# EAGLE library part STM32MP153 (library Bits_library_eagle 9x)
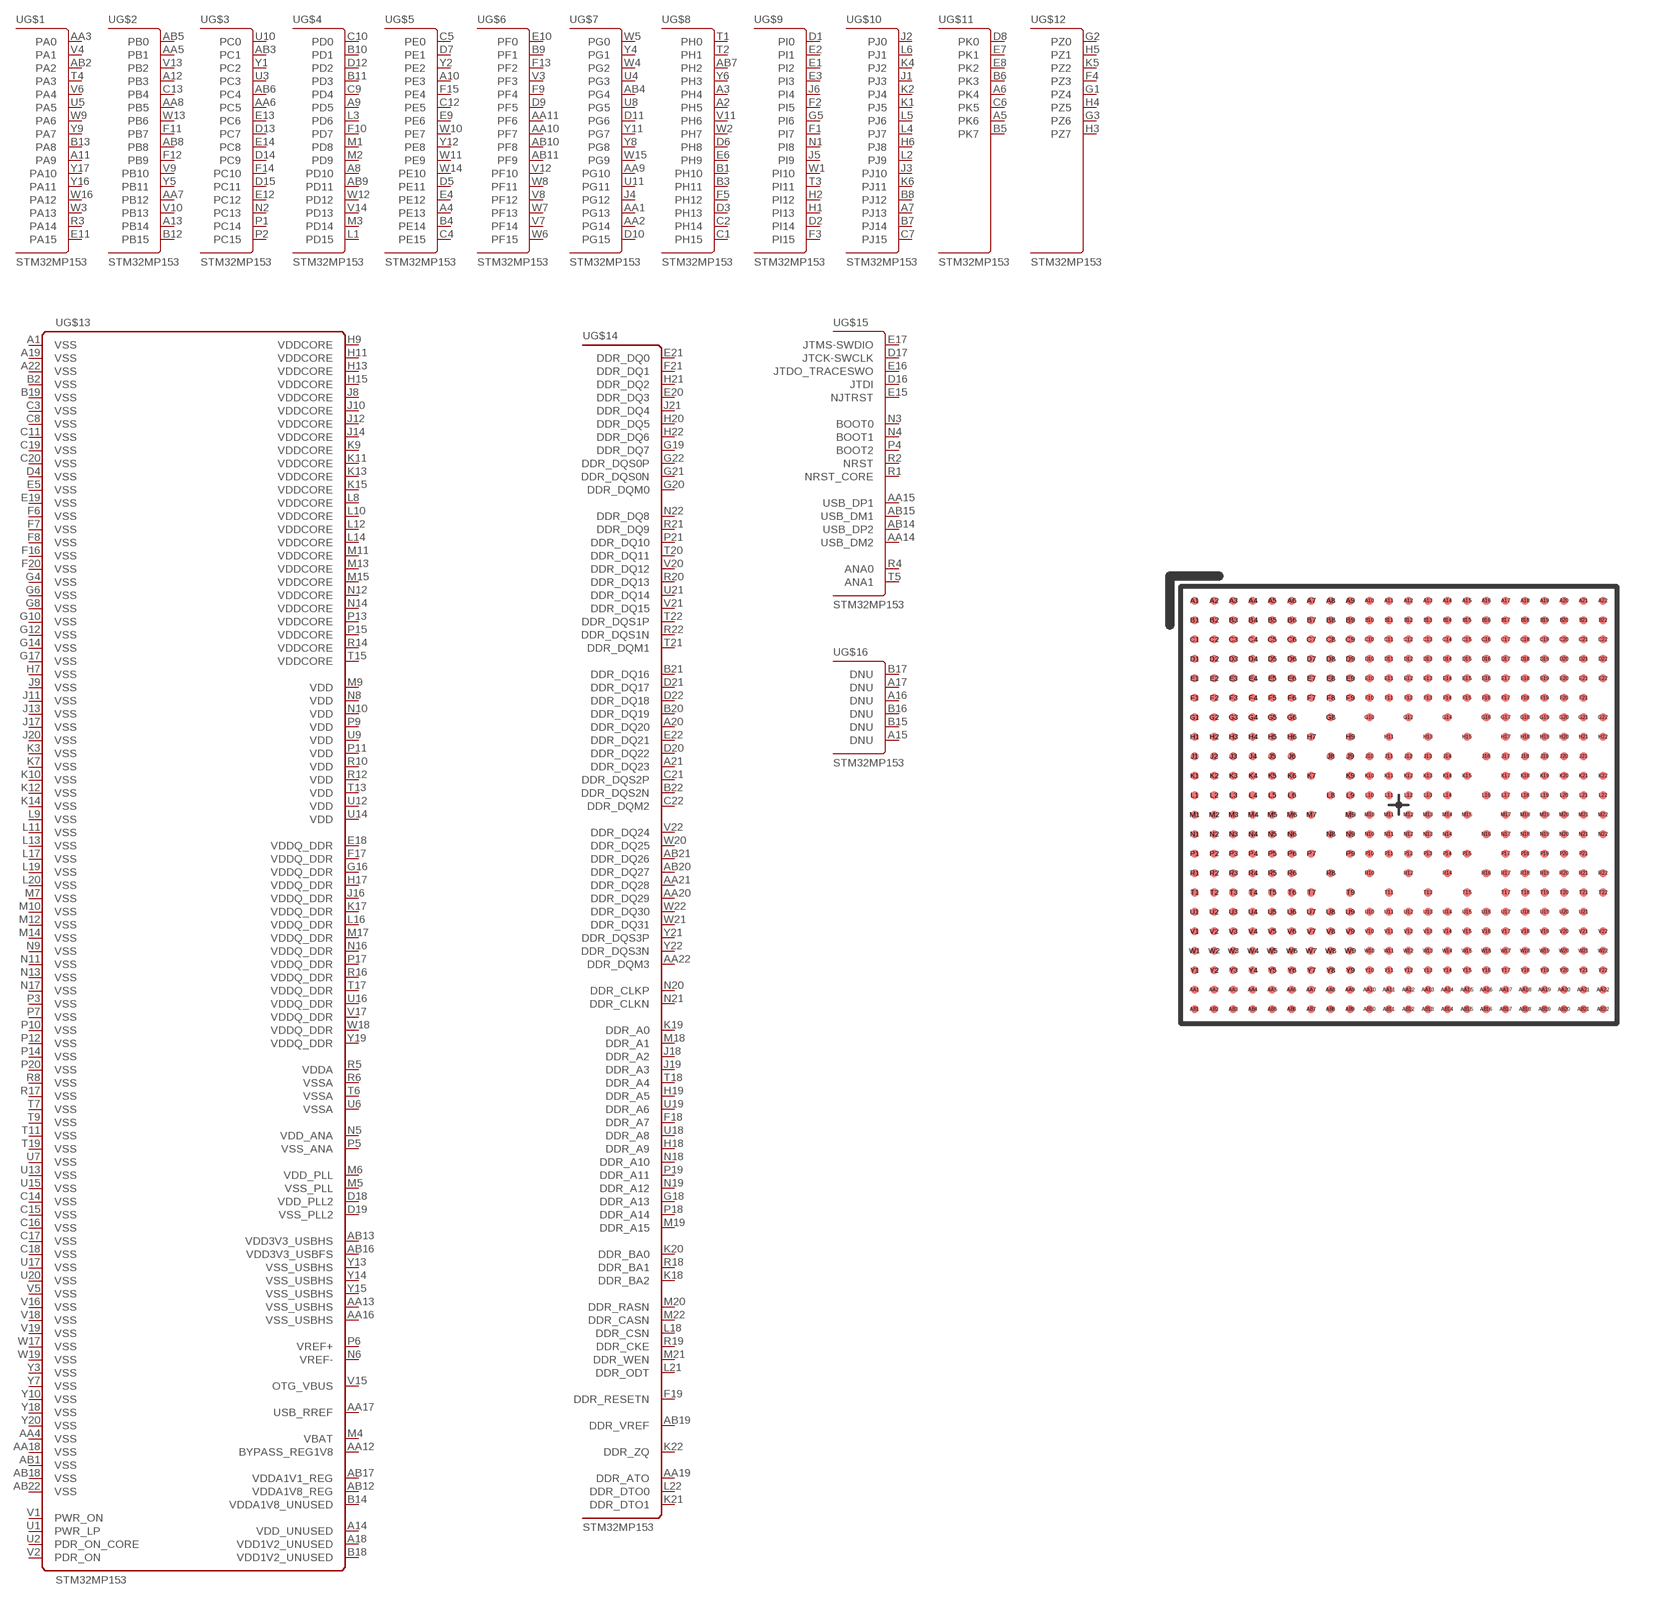
[diagram p41: symbol with the pads of LFBGA448; footprint LFBGA448]

Designator prefix -; gates G$1=STM32-PORTA G$2=STM32-PORTB G$3=STM32-PORTC G$4=STM32-PORTD G$5=STM32-PORTE G$6=STM32-PORTF G$7=STM32-PORTG G$8=STM32-PORTH G$9=STM32-PORTI G$10=STM32-PORTJ G$11=STM32-PORTK G$12=STM32-PORTZ G$13=STM32MP-PWR G$14=STM32MP-DDR G$15=STM32MP-SYS G$16=STM32MP-MISC

## STM32MP153  [LFBGA448]
A1  G$13:VSS  pwr
A2  G$8:PH5
A3  G$8:PH4
A4  G$5:PE13
A5  G$11:PK6
A6  G$11:PK4
A7  G$10:PJ13
A8  G$4:PD10
A9  G$4:PD5
A10  G$5:PE3
A11  G$1:PA9
A12  G$2:PB3
A13  G$2:PB14
A14  G$13:VDD_UNUSED  pwr
A15  G$16:DNU
A16  G$16:DNU
A17  G$16:DNU
A18  G$13:VDD1V2_UNUSED  pwr
A19  G$13:VSS  pwr
A20  G$14:DDR_DQ20
A21  G$14:DDR_DQ23
A22  G$13:VSS  pwr
AA1  G$7:PG13
AA2  G$7:PG14
AA3  G$1:PA0
AA4  G$13:VSS  pwr
AA5  G$2:PB1
AA6  G$3:PC5
AA7  G$2:PB12
AA8  G$2:PB5
AA9  G$7:PG10
AA10  G$6:PF7
AA11  G$6:PF6
AA12  G$13:BYPASS_REG1V8  pwr
AA13  G$13:VSS_USBHS  pwr
AA14  G$15:USB_DM2
AA15  G$15:USB_DP1
AA16  G$13:VSS_USBHS  pwr
AA17  G$13:USB_RREF  pwr
AA18  G$13:VSS  pwr
AA19  G$14:DDR_ATO
AA20  G$14:DDR_DQ29
AA21  G$14:DDR_DQ28
AA22  G$14:DDR_DQM3
AB1  G$13:VSS  pwr
AB2  G$1:PA2
AB3  G$3:PC1
AB4  G$7:PG4
AB5  G$2:PB0
AB6  G$3:PC4
AB7  G$8:PH2
AB8  G$2:PB8
AB9  G$4:PD11
AB10  G$6:PF8
AB11  G$6:PF9
AB12  G$13:VDDA1V8_REG  pwr
AB13  G$13:VDD3V3_USBHS  pwr
AB14  G$15:USB_DP2
AB15  G$15:USB_DM1
AB16  G$13:VDD3V3_USBFS  pwr
AB17  G$13:VDDA1V1_REG  pwr
AB18  G$13:VSS  pwr
AB19  G$14:DDR_VREF
AB20  G$14:DDR_DQ27
AB21  G$14:DDR_DQ26
AB22  G$13:VSS  pwr
B1  G$8:PH10
B2  G$13:VSS  pwr
B3  G$8:PH11
B4  G$5:PE14
B5  G$11:PK7
B6  G$11:PK3
B7  G$10:PJ14
B8  G$10:PJ12
B9  G$6:PF1
B10  G$4:PD1
B11  G$4:PD3
B12  G$2:PB15
B13  G$1:PA8
B14  G$13:VDDA1V8_UNUSED  pwr
B15  G$16:DNU
B16  G$16:DNU
B17  G$16:DNU
B18  G$13:VDD1V2_UNUSED  pwr
B19  G$13:VSS  pwr
B20  G$14:DDR_DQ19
B21  G$14:DDR_DQ16
B22  G$14:DDR_DQS2N
C1  G$8:PH15
C2  G$8:PH14
C3  G$13:VSS  pwr
C4  G$5:PE15
C5  G$5:PE0
C6  G$11:PK5
C7  G$10:PJ15
C8  G$13:VSS  pwr
C9  G$4:PD4
C10  G$4:PD0
C11  G$13:VSS  pwr
C12  G$5:PE5
C13  G$2:PB4
C14  G$13:VSS  pwr
C15  G$13:VSS  pwr
C16  G$13:VSS  pwr
C17  G$13:VSS  pwr
C18  G$13:VSS  pwr
C19  G$13:VSS  pwr
C20  G$13:VSS  pwr
C21  G$14:DDR_DQS2P
C22  G$14:DDR_DQM2
D1  G$9:PI0
D2  G$9:PI14
D3  G$8:PH13
D4  G$13:VSS  pwr
D5  G$5:PE11
D6  G$8:PH8
D7  G$5:PE1
D8  G$11:PK0
D9  G$6:PF5
D10  G$7:PG15
D11  G$7:PG6
D12  G$4:PD2
D13  G$3:PC7
D14  G$3:PC9
D15  G$3:PC11
D16  G$15:JTDI
D17  G$15:JTCK-SWCLK
D18  G$13:VDD_PLL2  pwr
D19  G$13:VSS_PLL2  pwr
D20  G$14:DDR_DQ22
D21  G$14:DDR_DQ17
D22  G$14:DDR_DQ18
E1  G$9:PI2
E2  G$9:PI1
E3  G$9:PI3
E4  G$5:PE12
E5  G$13:VSS  pwr
E6  G$8:PH9
E7  G$11:PK1
E8  G$11:PK2
E9  G$5:PE6
E10  G$6:PF0
E11  G$1:PA15
E12  G$3:PC12
E13  G$3:PC6
E14  G$3:PC8
E15  G$15:NJTRST
E16  G$15:JTDO_TRACESWO
E17  G$15:JTMS-SWDIO
E18  G$13:VDDQ_DDR  pwr
E19  G$13:VSS  pwr
E20  G$14:DDR_DQ3
E21  G$14:DDR_DQ0
E22  G$14:DDR_DQ21
F1  G$9:PI7
F2  G$9:PI5
F3  G$9:PI15
F4  G$12:PZ3
F5  G$8:PH12
F6  G$13:VSS  pwr
F7  G$13:VSS  pwr
F8  G$13:VSS  pwr
F9  G$6:PF4
F10  G$4:PD7
F11  G$2:PB7
F12  G$2:PB9
F13  G$6:PF2
F14  G$3:PC10
F15  G$5:PE4
F16  G$13:VSS  pwr
F17  G$13:VDDQ_DDR  pwr
F18  G$14:DDR_A7
F19  G$14:DDR_RESETN
F20  G$13:VSS  pwr
F21  G$14:DDR_DQ1
G1  G$12:PZ4
G2  G$12:PZ0
G3  G$12:PZ6
G4  G$13:VSS  pwr
G5  G$9:PI6
G6  G$13:VSS  pwr
G8  G$13:VSS  pwr
G10  G$13:VSS  pwr
G12  G$13:VSS  pwr
G14  G$13:VSS  pwr
G16  G$13:VDDQ_DDR  pwr
G17  G$13:VSS  pwr
G18  G$14:DDR_A13
G19  G$14:DDR_DQ7
G20  G$14:DDR_DQM0
G21  G$14:DDR_DQS0N
G22  G$14:DDR_DQS0P
H1  G$9:PI13
H2  G$9:PI12
H3  G$12:PZ7
H4  G$12:PZ5
H5  G$12:PZ1
H6  G$10:PJ8
H7  G$13:VSS  pwr
H9  G$13:VDDCORE  pwr
H11  G$13:VDDCORE  pwr
H13  G$13:VDDCORE  pwr
H15  G$13:VDDCORE  pwr
H17  G$13:VDDQ_DDR  pwr
H18  G$14:DDR_A9
H19  G$14:DDR_A5
H20  G$14:DDR_DQ5
H21  G$14:DDR_DQ2
H22  G$14:DDR_DQ6
J1  G$10:PJ3
J2  G$10:PJ0
J3  G$10:PJ10
J4  G$7:PG12
J5  G$9:PI9
J6  G$9:PI4
J8  G$13:VDDCORE  pwr
J9  G$13:VSS  pwr
J10  G$13:VDDCORE  pwr
J11  G$13:VSS  pwr
J12  G$13:VDDCORE  pwr
J13  G$13:VSS  pwr
J14  G$13:VDDCORE  pwr
J16  G$13:VDDQ_DDR  pwr
J17  G$13:VSS  pwr
J18  G$14:DDR_A2
J19  G$14:DDR_A3
J20  G$13:VSS  pwr
J21  G$14:DDR_DQ4
K1  G$10:PJ5
K2  G$10:PJ4
K3  G$13:VSS  pwr
K4  G$10:PJ2
K5  G$12:PZ2
K6  G$10:PJ11
K7  G$13:VSS  pwr
K9  G$13:VDDCORE  pwr
K10  G$13:VSS  pwr
K11  G$13:VDDCORE  pwr
K12  G$13:VSS  pwr
K13  G$13:VDDCORE  pwr
K14  G$13:VSS  pwr
K15  G$13:VDDCORE  pwr
K17  G$13:VDDQ_DDR  pwr
K18  G$14:DDR_BA2
K19  G$14:DDR_A0
K20  G$14:DDR_BA0
K21  G$14:DDR_DTO1
K22  G$14:DDR_ZQ
L1  G$4:PD15
L2  G$10:PJ9
L3  G$4:PD6
L4  G$10:PJ7
L5  G$10:PJ6
L6  G$10:PJ1
L8  G$13:VDDCORE  pwr
L9  G$13:VSS  pwr
L10  G$13:VDDCORE  pwr
L11  G$13:VSS  pwr
L12  G$13:VDDCORE  pwr
L13  G$13:VSS  pwr
L14  G$13:VDDCORE  pwr
L16  G$13:VDDQ_DDR  pwr
L17  G$13:VSS  pwr
L18  G$14:DDR_CSN
L19  G$13:VSS  pwr
L20  G$13:VSS  pwr
L21  G$14:DDR_ODT
L22  G$14:DDR_DTO0
M1  G$4:PD8
M2  G$4:PD9
M3  G$4:PD14
M4  G$13:VBAT  pwr
M5  G$13:VSS_PLL  pwr
M6  G$13:VDD_PLL  pwr
M7  G$13:VSS  pwr
M9  G$13:VDD  pwr
M10  G$13:VSS  pwr
M11  G$13:VDDCORE  pwr
M12  G$13:VSS  pwr
M13  G$13:VDDCORE  pwr
M14  G$13:VSS  pwr
M15  G$13:VDDCORE  pwr
M17  G$13:VDDQ_DDR  pwr
M18  G$14:DDR_A1
M19  G$14:DDR_A15
M20  G$14:DDR_RASN
M21  G$14:DDR_WEN
M22  G$14:DDR_CASN
N1  G$9:PI8
N2  G$3:PC13
N3  G$15:BOOT0
N4  G$15:BOOT1
N5  G$13:VDD_ANA  pwr
N6  G$13:VREF-  pwr
N8  G$13:VDD  pwr
N9  G$13:VSS  pwr
N10  G$13:VDD  pwr
N11  G$13:VSS  pwr
N12  G$13:VDDCORE  pwr
N13  G$13:VSS  pwr
N14  G$13:VDDCORE  pwr
N16  G$13:VDDQ_DDR  pwr
N17  G$13:VSS  pwr
N18  G$14:DDR_A10
N19  G$14:DDR_A12
N20  G$14:DDR_CLKP
N21  G$14:DDR_CLKN
N22  G$14:DDR_DQ8
P1  G$3:PC14
P2  G$3:PC15
P3  G$13:VSS  pwr
P4  G$15:BOOT2
P5  G$13:VSS_ANA  pwr
P6  G$13:VREF+  pwr
P7  G$13:VSS  pwr
P9  G$13:VDD  pwr
P10  G$13:VSS  pwr
P11  G$13:VDD  pwr
P12  G$13:VSS  pwr
P13  G$13:VDDCORE  pwr
P14  G$13:VSS  pwr
P15  G$13:VDDCORE  pwr
P17  G$13:VDDQ_DDR  pwr
P18  G$14:DDR_A14
P19  G$14:DDR_A11
P20  G$13:VSS  pwr
P21  G$14:DDR_DQ10
R1  G$15:NRST_CORE
R2  G$15:NRST
R3  G$1:PA14
R4  G$15:ANA0
R5  G$13:VDDA  pwr
R6  G$13:VSSA  pwr
R8  G$13:VSS  pwr
R10  G$13:VDD  pwr
R12  G$13:VDD  pwr
R14  G$13:VDDCORE  pwr
R16  G$13:VDDQ_DDR  pwr
R17  G$13:VSS  pwr
R18  G$14:DDR_BA1
R19  G$14:DDR_CKE
R20  G$14:DDR_DQ13
R21  G$14:DDR_DQ9
R22  G$14:DDR_DQS1N
T1  G$8:PH0
T2  G$8:PH1
T3  G$9:PI11
T4  G$1:PA3
T5  G$15:ANA1
T6  G$13:VSSA  pwr
T7  G$13:VSS  pwr
T9  G$13:VSS  pwr
T11  G$13:VSS  pwr
T13  G$13:VDD  pwr
T15  G$13:VDDCORE  pwr
T17  G$13:VDDQ_DDR  pwr
T18  G$14:DDR_A4
T19  G$13:VSS  pwr
T20  G$14:DDR_DQ11
T21  G$14:DDR_DQM1
T22  G$14:DDR_DQS1P
U1  G$13:PWR_LP  pwr
U2  G$13:PDR_ON_CORE  pwr
U3  G$3:PC3
U4  G$7:PG3
U5  G$1:PA5
U6  G$13:VSSA  pwr
U7  G$13:VSS  pwr
U8  G$7:PG5
U9  G$13:VDD  pwr
U10  G$3:PC0
U11  G$7:PG11
U12  G$13:VDD  pwr
U13  G$13:VSS  pwr
U14  G$13:VDD  pwr
U15  G$13:VSS  pwr
U16  G$13:VDDQ_DDR  pwr
U17  G$13:VSS  pwr
U18  G$14:DDR_A8
U19  G$14:DDR_A6
U20  G$13:VSS  pwr
U21  G$14:DDR_DQ14
V1  G$13:PWR_ON  pwr
V2  G$13:PDR_ON  pwr
V3  G$6:PF3
V4  G$1:PA1
V5  G$13:VSS  pwr
V6  G$1:PA4
V7  G$6:PF14
V8  G$6:PF12
V9  G$2:PB10
V10  G$2:PB13
V11  G$8:PH6
V12  G$6:PF10
V13  G$2:PB2
V14  G$4:PD13
V15  G$13:OTG_VBUS  pwr
V16  G$13:VSS  pwr
V17  G$13:VDDQ_DDR  pwr
V18  G$13:VSS  pwr
V19  G$13:VSS  pwr
V20  G$14:DDR_DQ12
V21  G$14:DDR_DQ15
V22  G$14:DDR_DQ24
W1  G$9:PI10
W2  G$8:PH7
W3  G$1:PA13
W4  G$7:PG2
W5  G$7:PG0
W6  G$6:PF15
W7  G$6:PF13
W8  G$6:PF11
W9  G$1:PA6
W10  G$5:PE7
W11  G$5:PE9
W12  G$4:PD12
W13  G$2:PB6
W14  G$5:PE10
W15  G$7:PG9
W16  G$1:PA12
W17  G$13:VSS  pwr
W18  G$13:VDDQ_DDR  pwr
W19  G$13:VSS  pwr
W20  G$14:DDR_DQ25
W21  G$14:DDR_DQ31
W22  G$14:DDR_DQ30
Y1  G$3:PC2
Y2  G$5:PE2
Y3  G$13:VSS  pwr
Y4  G$7:PG1
Y5  G$2:PB11
Y6  G$8:PH3
Y7  G$13:VSS  pwr
Y8  G$7:PG8
Y9  G$1:PA7
Y10  G$13:VSS  pwr
Y11  G$7:PG7
Y12  G$5:PE8
Y13  G$13:VSS_USBHS  pwr
Y14  G$13:VSS_USBHS  pwr
Y15  G$13:VSS_USBHS  pwr
Y16  G$1:PA11
Y17  G$1:PA10
Y18  G$13:VSS  pwr
Y19  G$13:VDDQ_DDR  pwr
Y20  G$13:VSS  pwr
Y21  G$14:DDR_DQS3P
Y22  G$14:DDR_DQS3N

## Footprint LFBGA448 (pad centres in mm)
smd 0.32 x 0.32: A1 -8.4,8.4; A2 -7.6,8.4; A3 -6.8,8.4; A4 -6,8.4; A5 -5.2,8.4; A6 -4.4,8.4; A7 -3.6,8.4; A8 -2.8,8.4; A9 -2,8.4; A10 -1.2,8.4; A11 -0.4,8.4; A12 0.4,8.4; A13 1.2,8.4; A14 2,8.4; A15 2.8,8.4; A16 3.6,8.4; A17 4.4,8.4; A18 5.2,8.4; A19 6,8.4; A20 6.8,8.4; A21 7.6,8.4; A22 8.4,8.4; AA1 -8.4,-7.6; AA2 -7.6,-7.6; AA3 -6.8,-7.6; AA4 -6,-7.6; AA5 -5.2,-7.6; AA6 -4.4,-7.6; AA7 -3.6,-7.6; AA8 -2.8,-7.6; AA9 -2,-7.6; AA10 -1.2,-7.6; AA11 -0.4,-7.6; AA12 0.4,-7.6; AA13 1.2,-7.6; AA14 2,-7.6; AA15 2.8,-7.6; AA16 3.6,-7.6; AA17 4.4,-7.6; AA18 5.2,-7.6; AA19 6,-7.6; AA20 6.8,-7.6; AA21 7.6,-7.6; AA22 8.4,-7.6; AB1 -8.4,-8.4; AB2 -7.6,-8.4; AB3 -6.8,-8.4; AB4 -6,-8.4; AB5 -5.2,-8.4; AB6 -4.4,-8.4; AB7 -3.6,-8.4; AB8 -2.8,-8.4; AB9 -2,-8.4; AB10 -1.2,-8.4; AB11 -0.4,-8.4; AB12 0.4,-8.4; AB13 1.2,-8.4; AB14 2,-8.4; AB15 2.8,-8.4; AB16 3.6,-8.4; AB17 4.4,-8.4; AB18 5.2,-8.4; AB19 6,-8.4; AB20 6.8,-8.4; AB21 7.6,-8.4; AB22 8.4,-8.4; B1 -8.4,7.6; B2 -7.6,7.6; B3 -6.8,7.6; B4 -6,7.6; B5 -5.2,7.6; B6 -4.4,7.6; B7 -3.6,7.6; B8 -2.8,7.6; B9 -2,7.6; B10 -1.2,7.6; B11 -0.4,7.6; B12 0.4,7.6; B13 1.2,7.6; B14 2,7.6; B15 2.8,7.6; B16 3.6,7.6; B17 4.4,7.6; B18 5.2,7.6; B19 6,7.6; B20 6.8,7.6; B21 7.6,7.6; B22 8.4,7.6; C1 -8.4,6.8; C2 -7.6,6.8; C3 -6.8,6.8; C4 -6,6.8; C5 -5.2,6.8; C6 -4.4,6.8; C7 -3.6,6.8; C8 -2.8,6.8; C9 -2,6.8; C10 -1.2,6.8; C11 -0.4,6.8; C12 0.4,6.8; C13 1.2,6.8; C14 2,6.8; C15 2.8,6.8; C16 3.6,6.8; C17 4.4,6.8; C18 5.2,6.8; C19 6,6.8; C20 6.8,6.8; C21 7.6,6.8; C22 8.4,6.8; D1 -8.4,6; D2 -7.6,6; D3 -6.8,6; D4 -6,6; D5 -5.2,6; D6 -4.4,6; D7 -3.6,6; D8 -2.8,6; D9 -2,6; D10 -1.2,6; D11 -0.4,6; D12 0.4,6; D13 1.2,6; D14 2,6; D15 2.8,6; D16 3.6,6; D17 4.4,6; D18 5.2,6; D19 6,6; D20 6.8,6; D21 7.6,6; D22 8.4,6; E1 -8.4,5.2; E2 -7.6,5.2; E3 -6.8,5.2; E4 -6,5.2; E5 -5.2,5.2; E6 -4.4,5.2; E7 -3.6,5.2; E8 -2.8,5.2; E9 -2,5.2; E10 -1.2,5.2; E11 -0.4,5.2; E12 0.4,5.2; E13 1.2,5.2; E14 2,5.2; E15 2.8,5.2; E16 3.6,5.2; E17 4.4,5.2; E18 5.2,5.2; E19 6,5.2; E20 6.8,5.2; E21 7.6,5.2; E22 8.4,5.2; F1 -8.4,4.4; F2 -7.6,4.4; F3 -6.8,4.4; F4 -6,4.4; F5 -5.2,4.4; F6 -4.4,4.4; F7 -3.6,4.4; F8 -2.8,4.4; F9 -2,4.4; F10 -1.2,4.4; F11 -0.4,4.4; F12 0.4,4.4; F13 1.2,4.4; F14 2,4.4; F15 2.8,4.4; F16 3.6,4.4; F17 4.4,4.4; F18 5.2,4.4; F19 6,4.4; F20 6.8,4.4; F21 7.6,4.4; G1 -8.4,3.6; G2 -7.6,3.6; G3 -6.8,3.6; G4 -6,3.6; G5 -5.2,3.6; G6 -4.4,3.6; G8 -2.8,3.6; G10 -1.2,3.6; G12 0.4,3.6; G14 2,3.6; G16 3.6,3.6; G17 4.4,3.6; G18 5.2,3.6; G19 6,3.6; G20 6.8,3.6; G21 7.6,3.6; G22 8.4,3.6; H1 -8.4,2.8; H2 -7.6,2.8; H3 -6.8,2.8; H4 -6,2.8; H5 -5.2,2.8; H6 -4.4,2.8; H7 -3.6,2.8; H9 -2,2.8; H11 -0.4,2.8; H13 1.2,2.8; H15 2.8,2.8; H17 4.4,2.8; H18 5.2,2.8; H19 6,2.8; H20 6.8,2.8; H21 7.6,2.8; H22 8.4,2.8; J1 -8.4,2; J2 -7.6,2; J3 -6.8,2; J4 -6,2; J5 -5.2,2; J6 -4.4,2; J8 -2.8,2; J9 -2,2; J10 -1.2,2; J11 -0.4,2; J12 0.4,2; J13 1.2,2; J14 2,2; J16 3.6,2; J17 4.4,2; J18 5.2,2; J19 6,2; J20 6.8,2; J21 7.6,2; K1 -8.4,1.2; K2 -7.6,1.2; K3 -6.8,1.2; K4 -6,1.2; K5 -5.2,1.2; K6 -4.4,1.2; K7 -3.6,1.2; K9 -2,1.2; K10 -1.2,1.2; K11 -0.4,1.2; K12 0.4,1.2; K13 1.2,1.2; K14 2,1.2; K15 2.8,1.2; K17 4.4,1.2; K18 5.2,1.2; K19 6,1.2; K20 6.8,1.2; K21 7.6,1.2; K22 8.4,1.2; L1 -8.4,0.4; L2 -7.6,0.4; L3 -6.8,0.4; L4 -6,0.4; L5 -5.2,0.4; L6 -4.4,0.4; L8 -2.8,0.4; L9 -2,0.4; L10 -1.2,0.4; L11 -0.4,0.4; L12 0.4,0.4; L13 1.2,0.4; L14 2,0.4; L16 3.6,0.4; L17 4.4,0.4; L18 5.2,0.4; L19 6,0.4; L20 6.8,0.4; L21 7.6,0.4; L22 8.4,0.4; M1 -8.4,-0.4; M2 -7.6,-0.4; M3 -6.8,-0.4; M4 -6,-0.4; M5 -5.2,-0.4; M6 -4.4,-0.4; M7 -3.6,-0.4; M9 -2,-0.4; M10 -1.2,-0.4; M11 -0.4,-0.4; M12 0.4,-0.4; M13 1.2,-0.4; M14 2,-0.4; M15 2.8,-0.4; M17 4.4,-0.4; M18 5.2,-0.4; M19 6,-0.4; M20 6.8,-0.4; M21 7.6,-0.4; M22 8.4,-0.4; N1 -8.4,-1.2; N2 -7.6,-1.2; N3 -6.8,-1.2; N4 -6,-1.2; N5 -5.2,-1.2; N6 -4.4,-1.2; N8 -2.8,-1.2; N9 -2,-1.2; N10 -1.2,-1.2; N11 -0.4,-1.2; N12 0.4,-1.2; N13 1.2,-1.2; N14 2,-1.2; N16 3.6,-1.2; N17 4.4,-1.2; N18 5.2,-1.2; N19 6,-1.2; N20 6.8,-1.2; N21 7.6,-1.2; N22 8.4,-1.2; P1 -8.4,-2; P2 -7.6,-2; P3 -6.8,-2; P4 -6,-2; P5 -5.2,-2; P6 -4.4,-2; P7 -3.6,-2; P9 -2,-2; P10 -1.2,-2; P11 -0.4,-2; P12 0.4,-2; P13 1.2,-2; P14 2,-2; P15 2.8,-2; P17 4.4,-2; P18 5.2,-2; P19 6,-2; P20 6.8,-2; P21 7.6,-2; R1 -8.4,-2.8; R2 -7.6,-2.8; R3 -6.8,-2.8; R4 -6,-2.8; R5 -5.2,-2.8; R6 -4.4,-2.8; R8 -2.8,-2.8; R10 -1.2,-2.8; R12 0.4,-2.8; R14 2,-2.8; R16 3.6,-2.8; R17 4.4,-2.8; R18 5.2,-2.8; R19 6,-2.8; R20 6.8,-2.8; R21 7.6,-2.8; R22 8.4,-2.8; T1 -8.4,-3.6; T2 -7.6,-3.6; T3 -6.8,-3.6; T4 -6,-3.6; T5 -5.2,-3.6; T6 -4.4,-3.6; T7 -3.6,-3.6; T9 -2,-3.6; T11 -0.4,-3.6; T13 1.2,-3.6; T15 2.8,-3.6; T17 4.4,-3.6; T18 5.2,-3.6; T19 6,-3.6; T20 6.8,-3.6; T21 7.6,-3.6; T22 8.4,-3.6; U1 -8.4,-4.4; U2 -7.6,-4.4; U3 -6.8,-4.4; U4 -6,-4.4; U5 -5.2,-4.4; U6 -4.4,-4.4; U7 -3.6,-4.4; U8 -2.8,-4.4; U9 -2,-4.4; U10 -1.2,-4.4; U11 -0.4,-4.4; U12 0.4,-4.4; U13 1.2,-4.4; U14 2,-4.4; U15 2.8,-4.4; U16 3.6,-4.4; U17 4.4,-4.4; U18 5.2,-4.4; U19 6,-4.4; U20 6.8,-4.4; U21 7.6,-4.4; V1 -8.4,-5.2; V2 -7.6,-5.2; V3 -6.8,-5.2; V4 -6,-5.2; V5 -5.2,-5.2; V6 -4.4,-5.2; V7 -3.6,-5.2; V8 -2.8,-5.2; V9 -2,-5.2; V10 -1.2,-5.2; V11 -0.4,-5.2; V12 0.4,-5.2; V13 1.2,-5.2; V14 2,-5.2; V15 2.8,-5.2; V16 3.6,-5.2; V17 4.4,-5.2; V18 5.2,-5.2; V19 6,-5.2; V20 6.8,-5.2; V21 7.6,-5.2; V22 8.4,-5.2; W1 -8.4,-6; W2 -7.6,-6; W3 -6.8,-6; W4 -6,-6; W5 -5.2,-6; W6 -4.4,-6; W7 -3.6,-6; W8 -2.8,-6; W9 -2,-6; W10 -1.2,-6; W11 -0.4,-6; W12 0.4,-6; W13 1.2,-6; W14 2,-6; W15 2.8,-6; W16 3.6,-6; W17 4.4,-6; W18 5.2,-6; W19 6,-6; W20 6.8,-6; W21 7.6,-6; W22 8.4,-6; Y1 -8.4,-6.8; Y2 -7.6,-6.8; Y3 -6.8,-6.8; Y4 -6,-6.8; Y5 -5.2,-6.8; Y6 -4.4,-6.8; Y7 -3.6,-6.8; Y8 -2.8,-6.8; Y9 -2,-6.8; Y10 -1.2,-6.8; Y11 -0.4,-6.8; Y12 0.4,-6.8; Y13 1.2,-6.8; Y14 2,-6.8; Y15 2.8,-6.8; Y16 3.6,-6.8; Y17 4.4,-6.8; Y18 5.2,-6.8; Y19 6,-6.8; Y20 6.8,-6.8; Y21 7.6,-6.8; Y22 8.4,-6.8